# Altium schematic symbol library MiniSTM32.SCHLIB: 34 symbols
Pins are listed as number, name and electrical type; pins without a type are passive.

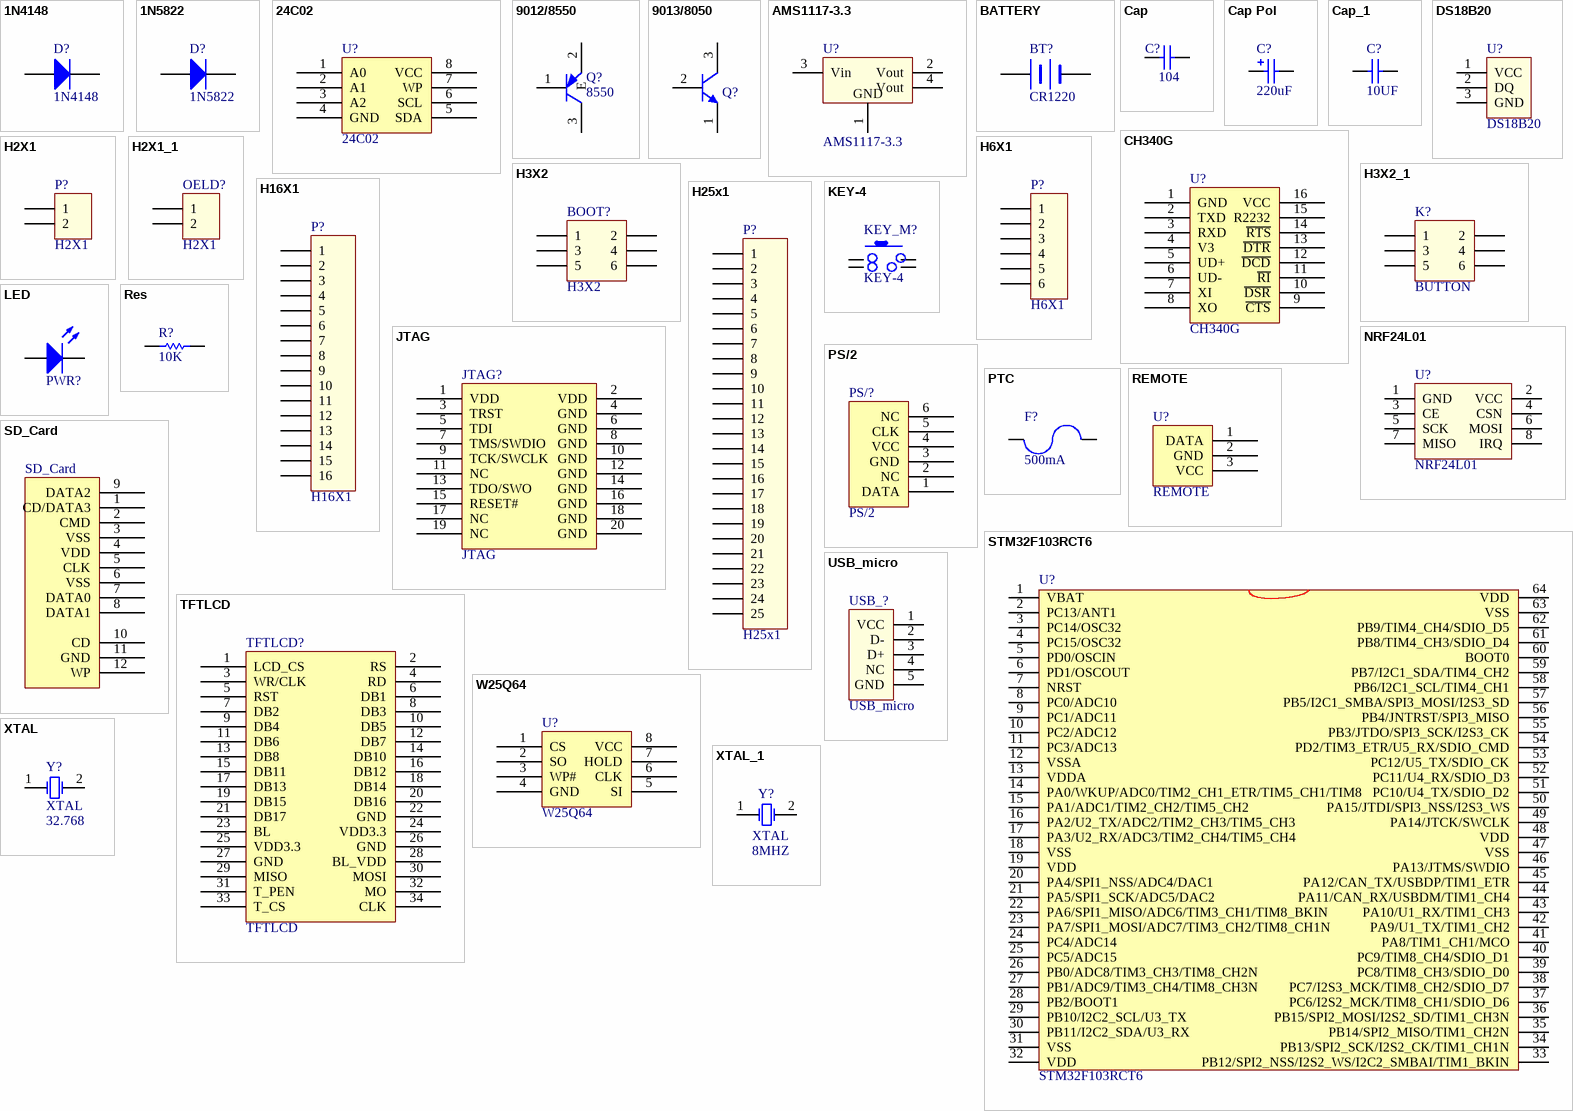
[diagram p0: symbols 1N4148 to XTAL_1]

## 1N4148
designator D?
footprint DO-35(1N4148) (Diode, Axial; Body 3.8 x 1.9 mm (LxDia. max), Lead Dia. 0.53 mm (max))
footprint Diode_MELF(1206)
footprint 1N4733
pins: 1, 2

## 1N5822
designator D?
footprint Diode_5822
footprint 1N4733
pins: 1 A, 2 K

## 24C02
designator U?
footprint SO-8
pins: 1 A0, 2 A1, 3 A2, 4 GND, 5 SDA, 6 SCL, 7 WP, 8 VCC

## 9012/8550
designator Q?, comment 8550
footprint TO-92
footprint SOT23A
pins: 1 B, 2 E, 3 C

## 9013/8050
designator Q?  (value not drawn)
footprint TO-92
footprint SOT23A
pins: 1 E, 2 B, 3 C

## AMS1117-3.3
designator U?
footprint SOT-223(AMS1117-3.3)
pins: 1 GND, 2 Vout, 3 Vin, 4 Vout

## BATTERY
designator BT?, comment CR1220
footprint CR1220
pins: 1 +, 2 -

## Cap
designator C?  (value not drawn)
footprint CAP[0805]
footprint CAP[0603]
pins: 1, 2
text: 104

## Cap Pol
designator C?  (value not drawn)
footprint CAP POL [16V]
footprint CAP[1206]
footprint CAP[1210]
footprint CAP[6332]
footprint D (7.3×4.3)
footprint R_6_3_h_7_7
pins: 1, 2
text: 220uF

## Cap_1
designator C?, comment Cap  (value not drawn)
footprint CAP[0805]
footprint CAP[0603]
footprint CAP[1206]
pins: 1, 2
text: 10UF

## CH340G
designator U?
footprint SO-16
pins: 1 GND, 2 TXD, 3 RXD, 4 V3, 5 UD+, 6 UD-, 7 XI, 8 XO, 9 ~{CTS}, 10 ~{DSR}, 11 ~{RI}, 12 ~{DCD}, 13 ~{DTR}, 14 ~{RTS}, 15 R2232, 16 VCC

## DS18B20
designator U?
footprint H2.54-1X3(RM)
pins: 1 VCC, 2 DQ, 3 GND

## H2X1
designator P?
footprint H2.54-1X2
footprint H2.00-1X2
footprint XH2.54_2P
footprint XH2.54_2P - (W)
pins: 1, 2

## H2X1_1
designator OELD?, comment H2X1
footprint H2.54-1X2
footprint H2.00-1X2
footprint XH2.54_2P
footprint XH2.54_2P - (W)
footprint H2.54-1X2(IN)
pins: 1, 2

## H3X2
designator BOOT?
footprint H2.54-2X3
pins: 1, 2, 3, 4, 5, 6

## H3X2_1
designator K?, comment BUTTON
H3X2
footprint H2.54-2X3
footprint KEY-6
pins: 1, 2, 3, 4, 5, 6

## H6X1
designator P?
footprint H2.54-1X6
pins: 1, 2, 3, 4, 5, 6

## H16X1
designator P?
footprint H2.54-1X16
pins: 1, 2, 3, 4, 5, 6, 7, 8, 9, 10, 11, 12, 13, 14, 15, 16

## H25x1
designator P?
footprint H2.54-1X25
pins: 1, 2, 3, 4, 5, 6, 7, 8, 9, 10, 11, 12, 13, 14, 15, 16, 17, 18, 19, 20, 21, 22, 23, 24, 25

## JTAG
designator JTAG?
footprint JTAG
pins: 1 VDD, 2 VDD, 3 TRST, 4 GND, 5 TDI, 6 GND, 7 TMS/SWDIO, 8 GND, 9 TCK/SWCLK, 10 GND, 11 NC, 12 GND, 13 TDO/SWO, 14 GND, 15 RESET#, 16 GND, 17 NC, 18 GND, 19 NC, 20 GND

## KEY-4
designator KEY_M?
footprint KEY-4(SM)
footprint KEY-4(DIP)
pins: 1, 2, 3, 4

## LED
designator PWR?  (value not drawn)
footprint LED[0805]
footprint LED[0603]
pins: 1 A, 2 K

## NRF24L01
designator U?
footprint NRF24L01
pins: 1 GND, 2 VCC, 3 CE, 4 CSN, 5 SCK, 6 MOSI, 7 MISO, 8 IRQ

## PS/2
designator PS/?
footprint PS/2
pins: 1 DATA, 2 NC, 3 GND, 4 VCC, 5 CLK, 6 NC

## PTC
designator F?, comment 500mA
footprint PTC[1206]
footprint PTC[0805]
pins: 1, 2

## REMOTE
designator U?
footprint REMOTE
pins: 1 DATA, 2 GND, 3 VCC

## Res
designator R?  (value not drawn)
footprint RES[0805]
footprint Res
footprint RES[0603]
pins: 1, 2
text: 10K

## SD_Card
designator SD_Card?
footprint SD_Card
pins: 1 CD/DATA3, 2 CMD, 3 VSS, 4 VDD, 5 CLK, 6 VSS, 7 DATA0, 8 DATA1, 9 DATA2, 10 CD, 11 GND, 12 WP

## STM32F103RCT6
designator U?
footprint LQFP-64
pins: 1 VBAT, 2 PC13/ANT1, 3 PC14/OSC32, 4 PC15/OSC32, 5 PD0/OSCIN, 6 PD1/OSCOUT, 7 NRST, 8 PC0/ADC10, 9 PC1/ADC11, 10 PC2/ADC12, 11 PC3/ADC13, 12 VSSA, 13 VDDA, 14 PA0/WKUP/ADC0/TIM2_CH1_ETR/TIM5_CH1/TIM8, 15 PA1/ADC1/TIM2_CH2/TIM5_CH2, 16 PA2/U2_TX/ADC2/TIM2_CH3/TIM5_CH3, 17 PA3/U2_RX/ADC3/TIM2_CH4/TIM5_CH4, 18 VSS, 19 VDD, 20 PA4/SPI1_NSS/ADC4/DAC1, 21 PA5/SPI1_SCK/ADC5/DAC2, 22 PA6/SPI1_MISO/ADC6/TIM3_CH1/TIM8_BKIN, 23 PA7/SPI1_MOSI/ADC7/TIM3_CH2/TIM8_CH1N, 24 PC4/ADC14, 25 PC5/ADC15, 26 PB0/ADC8/TIM3_CH3/TIM8_CH2N, 27 PB1/ADC9/TIM3_CH4/TIM8_CH3N, 28 PB2/BOOT1, 29 PB10/I2C2_SCL/U3_TX, 30 PB11/I2C2_SDA/U3_RX, 31 VSS, 32 VDD, 33 PB12/SPI2_NSS/I2S2_WS/I2C2_SMBAI/TIM1_BKIN, 34 PB13/SPI2_SCK/I2S2_CK/TIM1_CH1N, 35 PB14/SPI2_MISO/TIM1_CH2N, 36 PB15/SPI2_MOSI/I2S2_SD/TIM1_CH3N, 37 PC6/I2S2_MCK/TIM8_CH1/SDIO_D6, 38 PC7/I2S3_MCK/TIM8_CH2/SDIO_D7, 39 PC8/TIM8_CH3/SDIO_D0, 40 PC9/TIM8_CH4/SDIO_D1, 41 PA8/TIM1_CH1/MCO, 42 PA9/U1_TX/TIM1_CH2, 43 PA10/U1_RX/TIM1_CH3, 44 PA11/CAN_RX/USBDM/TIM1_CH4, 45 PA12/CAN_TX/USBDP/TIM1_ETR, 46 PA13/JTMS/SWDIO, 47 VSS, 48 VDD, 49 PA14/JTCK/SWCLK, 50 PA15/JTDI/SPI3_NSS/I2S3_WS, 51 PC10/U4_TX/SDIO_D2, 52 PC11/U4_RX/SDIO_D3, 53 PC12/U5_TX/SDIO_CK, 54 PD2/TIM3_ETR/U5_RX/SDIO_CMD, 55 PB3/JTDO/SPI3_SCK/I2S3_CK, 56 PB4/JNTRST/SPI3_MISO, 57 PB5/I2C1_SMBA/SPI3_MOSI/I2S3_SD, 58 PB6/I2C1_SCL/TIM4_CH1, 59 PB7/I2C1_SDA/TIM4_CH2, 60 BOOT0, 61 PB8/TIM4_CH3/SDIO_D4, 62 PB9/TIM4_CH4/SDIO_D5, 63 VSS, 64 VDD

## TFTLCD
designator TFTLCD?
footprint TFTLCD_2_8
footprint TFTLCD_2_8
pins: 1 LCD_CS, 2 RS, 3 WR/CLK, 4 RD, 5 RST, 6 DB1, 7 DB2, 8 DB3, 9 DB4, 10 DB5, 11 DB6, 12 DB7, 13 DB8, 14 DB10, 15 DB11, 16 DB12, 17 DB13, 18 DB14, 19 DB15, 20 DB16, 21 DB17, 22 GND, 23 BL, 24 VDD3.3, 25 VDD3.3, 26 GND, 27 GND, 28 BL_VDD, 29 MISO, 30 MOSI, 31 T_PEN, 32 MO, 33 T_CS, 34 CLK

## USB_micro
designator USB_?
footprint USB(Micro)
footprint USB B mini 5pin
pins: 1 VCC, 2 D-, 3 D+, 4 NC, 5 GND

## W25Q64
designator U?
footprint SO-8
pins: 1 CS, 2 SO, 3 WP#, 4 GND, 5 SI, 6 CLK, 7 HOLD, 8 VCC

## XTAL
designator Y?
footprint XTAL
footprint XTAL-32768_2
pins: 1 OSC1, 2 OSC2
text: 32.768

## XTAL_1
designator Y?, comment XTAL
footprint XTAL
pins: 1 OSC1, 2 OSC2
text: 8MHZ